# Altium schematic symbol library IC_TSOPXXXX.SchLib: 1 symbol
Pins are listed as number, name and electrical type; pins without a type are passive.

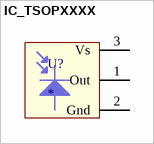
[diagram p0: symbol IC_TSOPXXXX]

## IC_TSOPXXXX
designator U?
pins: 1 Out, 2 Gnd, 3 Vs